# Altium schematic symbol library CondensadoresGenericos.SchLib: 18 symbols
Pins are listed as number, name and electrical type; pins without a type are passive.

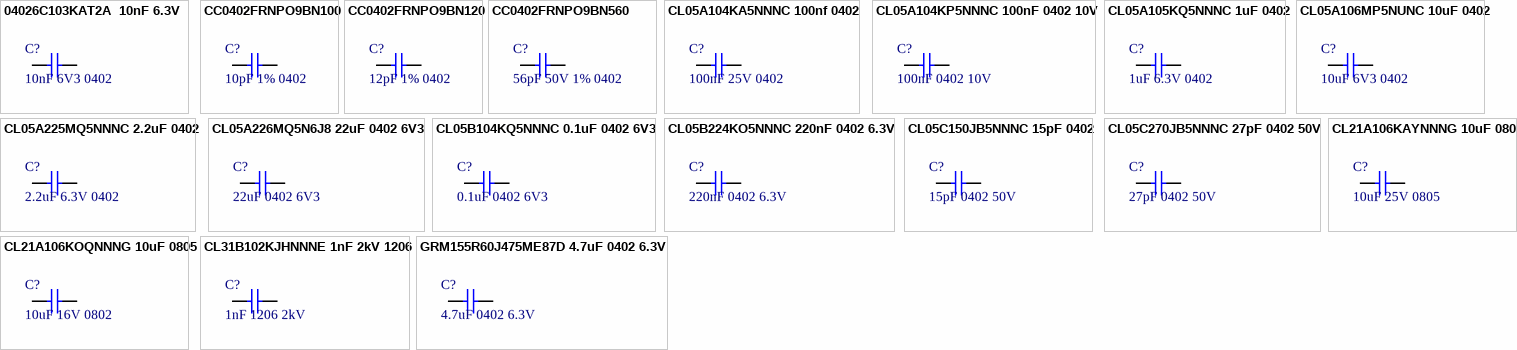
[diagram p0: symbols 04026C103KAT2A  10nF 6.3V to GRM155R60J475ME87D 4.7uF 0402 6.3V]

## 04026C103KAT2A  10nF 6.3V
designator C?, comment 10nF 6V3 0402
04026C103KAT2A  10nF 6.3V; Supplier 1: Digi-Key; Supplier Part Number 1: 478-04026C103KAT2ACT-ND; Value: 10nF 6V3 0402
pins: 1, 2

## CC0402FRNPO9BN100
designator C?, comment 10pF 1% 0402
10 pF ±1% 50V Ceramic Capacitor C0G, NP0 0402 (1005 Metric); Supplier 1: Digi-Key; Supplier Part Number 1: 311-1640-1-ND; Value: 10pF 1% 0402
pins: 1, 2

## CC0402FRNPO9BN120
designator C?, comment 12pF 1% 0402
12 pF ±1% 50V Ceramic Capacitor C0G, NP0 0402 (1005 Metric); Supplier 1: Digi-Key; Supplier Part Number 1: 311-1641-1-ND; Value: 12pF 1% 0402
pins: 1, 2

## CC0402FRNPO9BN560
designator C?, comment 56pF 50V 1% 0402
56 pF ±1% 50V Ceramic Capacitor C0G, NP0 0402 (1005 Metric); Supplier 1: Digi-Key; Supplier Part Number 1: 311-3734-1-ND; Value: 56pF 50V 1% 0402
pins: 1, 2

## CL05A104KA5NNNC 100nf 0402
designator C?, comment 100nF 25V 0402
100nF, 25V, MLCC, 0402; Manufacturer: Samsung; Manufacturer Part Number: CL05A104KA5NNNC; Capacitance: 0.1 µF; Dielectric: X5R; Tolerance (%): ±10 %; Supplier 1: Digi-Key; Stock 1: 8000233; Pricing 1: 1=0.1, 10=0.012, 50=0.0064, 100=0.0053, 500=0.0038, 1000=0.003, 2500=0.0027, 5000=0.0025 (USD); Case Size/Dimension: 0402; Rated Voltage: 25 V; ComponentLink1URL: http://www1.futureelectronics.com/doc/SAMSUNG/CL05A104KA5NNNC.pdf?src-supplier=Future+Electronics; ComponentLink1Description: http://www1.futureelectronics.com/doc/SAMSUNG/CL05A104KA5NNNC.pdf?src-supplier=Future+Electronics; ComponentLink2URL: http://www.samsungsem.com/kr/support/product-search/mlcc/CL05A104KA5NNNC.jsp?src-supplier=Digi-Key; ComponentLink2Description: http://www.samsungsem.com/kr/support/product-search/mlcc/CL05A104KA5NNNC.jsp?src-supplier=Digi-Key; ComponentLink3URL: https://www.distrelec.biz/Web/Downloads/_e/ng/MLCC_CatalogDownload2013_ENG.pdf?mime=application%2Fpdf&src-supplier=Distrelec; ComponentLink3Description: https://www.distrelec.biz/Web/Downloads/_e/ng/MLCC_CatalogDownload2013_ENG.pdf?mime=application%2Fpdf&src-supplier=Distrelec; ComponentLink4URL: https://www.verical.com/server-webapp/html/getDatasheet?partID=357412&src-supplier=Verical; ComponentLink4Description: https://www.verical.com/server-webapp/html/getDatasheet?partID=357412&src-supplier=Verical; Supplier Part Number 1: 1276-1043-1-ND; Value: 100nF 25V 0402
pins: 1, 2

## CL05A104KP5NNNC 100nF 0402 10V
designator C?, comment 100nF 0402 10V
Cap Ceramic 0.1uF 10V X5R 10% SMD 0402 85C Paper T/R; Manufacturer: Samsung; Manufacturer Part Number: CL05A104KP5NNNC; Capacitance: 100000 pF; Supplier 1: Digi-Key; Stock 1: 5595689; Pricing 1: 1=0.1, 10=0.021, 50=0.0116, 100=0.0094, 500=0.0067, 1000=0.0053, 2500=0.0048, 5000=0.0044 (USD); Case Size/Dimension: 0402; Dielectric: X5R; Tolerance (%): ±10 %; Rated Voltage: 10 V; ComponentLink1URL: https://www.distrelec.biz/Web/Downloads/_e/ng/MLCC_CatalogDownload2013_ENG.pdf?mime=application%2Fpdf&src-supplier=Distrelec; ComponentLink1Description: https://www.distrelec.biz/Web/Downloads/_e/ng/MLCC_CatalogDownload2013_ENG.pdf?mime=application%2Fpdf&src-supplier=Distrelec; ComponentLink2URL: https://media.digikey.com/pdf/Data%20Sheets/Samsung%20PDFs/CL_Series_MLCC_ds.pdf?src-supplier=Digi-Key; ComponentLink2Description: https://media.digikey.com/pdf/Data%20Sheets/Samsung%20PDFs/CL_Series_MLCC_ds.pdf?src-supplier=Digi-Key; ComponentLink3URL: http://www1.futureelectronics.com/doc/SAMSUNG%20PASSIVE/CL05B104KQ5NNNC.pdf?src-supplier=Future+Electronics; ComponentLink3Description: http://www1.futureelectronics.com/doc/SAMSUNG%20PASSIVE/CL05B104KQ5NNNC.pdf?src-supplier=Future+Electronics; ComponentLink4URL: https://www.verical.com/server-webapp/html/getDatasheet?partID=358611&src-supplier=Verical; ComponentLink4Description: https://www.verical.com/server-webapp/html/getDatasheet?partID=358611&src-supplier=Verical; Supplier Part Number 1: 1276-1022-1-ND; Value: 100nF 0402 10V
pins: 1, 2

## CL05A105KQ5NNNC 1uF 0402
designator C?, comment 1uF 6.3V 0402
SAMSUNG ELECTRO-MECHANICS - CL05A105KQ5NNNC - SMD Multilayer Ceramic Capacitor, 1 µF, 6.3 V, 0402 [1005 Metric], ± 10%, X5R, CL Series; Capacitance: 1000000 pF; Supplier 1: Digi-Key; Manufacturer: Samsung; Manufacturer Part Number: CL05A105KQ5NNNC; Stock 1: 2633061; Pricing 1: 1=0.1, 10=0.019, 50=0.0106, 100=0.0087, 500=0.0062, 1000=0.0049, 2500=0.0044, 5000=0.0041 (USD); Case Size/Dimension: 0402; Dielectric: X5R; Tolerance (%): ±10 %; Rated Voltage: 6.3 V; ComponentLink1URL: http://www.samsungsem.com/kr/support/product-search/mlcc/CL05A105KQ5NNNC.jsp?src-supplier=Digi-Key; ComponentLink1Description: http://www.samsungsem.com/kr/support/product-search/mlcc/CL05A105KQ5NNNC.jsp?src-supplier=Digi-Key; ComponentLink2URL: http://www1.futureelectronics.com/doc/SAMSUNG%20PASSIVE/CL05B104KQ5NNNC.pdf?src-supplier=Future+Electronics; ComponentLink2Description: http://www1.futureelectronics.com/doc/SAMSUNG%20PASSIVE/CL05B104KQ5NNNC.pdf?src-supplier=Future+Electronics; ComponentLink3URL: https://www.verical.com/server-webapp/html/getDatasheet?partID=358391&src-supplier=Verical; ComponentLink3Description: https://www.verical.com/server-webapp/html/getDatasheet?partID=358391&src-supplier=Verical; ComponentLink4URL: https://produktinfo.conrad.com/datenblaetter/450000-474999/459172-da-01-en-VS_KONDENSATOR_0402.pdf?src-supplier=Conrad; ComponentLink4Description: https://produktinfo.conrad.com/datenblaetter/450000-474999/459172-da-01-en-VS_KONDENSATOR_0402.pdf?src-supplier=Conrad; Supplier Part Number 1: 1276-1010-1-ND; Value: 1uF 6.3V 0402
pins: 1, 2

## CL05A106MP5NUNC 10uF 0402
designator C?, comment 10uF 6V3 0402
CL05A106MP5NUNC CAP CER 10UF 10V X5R 0402; Value: 10uF 6V3 0402; Supplier 1: Digi-Key; Supplier Part Number 1: 1276-1450-1-ND
pins: 1, 2

## CL05A225MQ5NNNC 2.2uF 0402
designator C?, comment 2.2uF 6.3V 0402
CAP CER 2.2UF 6.3V X5R 0402; Supplier 1: Digi-Key; Supplier Part Number 1: 1276-1469-1-ND; Value: 2.2uF 6.3V 0402
pins: 1, 2

## CL05A226MQ5N6J8 22uF 0402 6V3
designator C?, comment 22uF 0402 6V3
CL05 Series 22 uF 6.3 V ±20% Tolerance X5R SMT Multilayer Ceramic Capacitor; Manufacturer: Samsung; Manufacturer Part Number: CL05A226MQ5N6J8; Categories: Capacitors; Capacitance: 22µF; Voltage - Rated: 6.3V; Supplier 1: Digi-Key; Stock 1: 135434; Pricing 1: 1=0.53, 10=0.366, 50=0.2564, 100=0.2197, 500=0.1648, 1000=0.1392, 2500=0.1318 (USD); Series: CL; Packaging: Tape & Reel (TR); Part Status: Active; Tolerance: ±20%; Temperature Coefficient: X5R; Operating Temperature: -55°C ~ 85°C; Features: -; Ratings: -; Applications: General Purpose; Failure Rate: -; Mounting Type: Surface Mount, MLCC; Package / Case: 0402 (1005 Metric); Size / Dimension: 0.039 L x 0.020 W (1.00mm x 0.50mm); Height - Seated (Max): -; Thickness (Max): 0.030 (0.75mm); Lead Spacing: -; Lead Style: -; ComponentLink1URL: http://www.samsungsem.com/kr/support/library/product-catalog/mlcc.jsp?src-supplier=Digi-Key; ComponentLink1Description: http://www.samsungsem.com/kr/support/library/product-catalog/mlcc.jsp?src-supplier=Digi-Key; Supplier Part Number 1: 1276-7090-1-ND; Value: 22uF 0402 6V3
pins: 1, 2

## CL05B104KQ5NNNC 0.1uF 0402 6V3
designator C?, comment 0.1uF 0402 6V3
0.1 µF ±10% 6.3V Ceramic Capacitor X7R 0402 (1005 Metric); Supplier 1: Digi-Key; Supplier Part Number 1: 1276-1511-1-ND; Value: 0.1uF 0402 6V3
pins: 1, 2

## CL05B224KO5NNNC 220nF 0402 6.3V
designator C?, comment 220nF 0402 6.3V
SAMSUNG ELECTRO-MECHANICS - CL05B224KO5NNNC - SMD Multilayer Ceramic Capacitor, 0.22 µF, 16 V, 0402 [1005 Metric], ± 10%, X7R, CL Series; Rated Voltage: 16 V; Supplier 1: Digi-Key; Manufacturer: Samsung; Manufacturer Part Number: CL05B224KO5NNNC; Stock 1: 1886603; Pricing 1: 1=0.1, 10=0.033, 50=0.0182, 100=0.0149, 500=0.0106, 1000=0.0084, 2500=0.0076, 5000=0.007 (USD); Capacitance: 220 nF; Case Size/Dimension: 0402; Dielectric: X7R; Tolerance (%): ±10 %; ComponentLink1URL: http://www.samsungsem.com/kr/support/product-search/mlcc/CL05B224KO5NNNC.jsp?src-supplier=Digi-Key; ComponentLink1Description: http://www.samsungsem.com/kr/support/product-search/mlcc/CL05B224KO5NNNC.jsp?src-supplier=Digi-Key; ComponentLink2URL: http://www1.futureelectronics.com/doc/SAMSUNG/CL05B224KO5NNNC.pdf?src-supplier=Future+Electronics; ComponentLink2Description: http://www1.futureelectronics.com/doc/SAMSUNG/CL05B224KO5NNNC.pdf?src-supplier=Future+Electronics; ComponentLink3URL: https://www.verical.com/server-webapp/html/getDatasheet?partID=358459&src-supplier=Verical; ComponentLink3Description: https://www.verical.com/server-webapp/html/getDatasheet?partID=358459&src-supplier=Verical; Supplier Part Number 1: 1276-1176-1-ND; Value: 220nF 0402 6.3V
pins: 1, 2

## CL05C150JB5NNNC 15pF 0402
designator C?, comment 15pF 0402 50V
CAP CER 15PF 50V C0G/NP0 0402; Manufacturer: Samsung; Manufacturer Part Number: CL05C150JB5NNNC; Dielectric: C0G; Tolerance (%): ±5 %; Supplier 1: Digi-Key; Stock 1: 1262754; Pricing 1: 1=0.1, 10=0.025, 50=0.0138, 100=0.0113, 500=0.008, 1000=0.0063, 2500=0.0058, 5000=0.0053 (USD); Capacitance: 15 pF; Case Size/Dimension: 0402; Rated Voltage: 50 V; ComponentLink1URL: https://www.distrelec.biz/Web/Downloads/_e/ng/MLCC_CatalogDownload2013_ENG.pdf?mime=application%2Fpdf&src-supplier=Distrelec; ComponentLink1Description: https://www.distrelec.biz/Web/Downloads/_e/ng/MLCC_CatalogDownload2013_ENG.pdf?mime=application%2Fpdf&src-supplier=Distrelec; ComponentLink2URL: http://www1.futureelectronics.com/doc/SAMSUNG/CL05C150JB5NNNC.pdf?src-supplier=Future+Electronics; ComponentLink2Description: http://www1.futureelectronics.com/doc/SAMSUNG/CL05C150JB5NNNC.pdf?src-supplier=Future+Electronics; ComponentLink3URL: https://www.verical.com/server-webapp/html/getDatasheet?partID=497170&src-supplier=Verical; ComponentLink3Description: https://www.verical.com/server-webapp/html/getDatasheet?partID=497170&src-supplier=Verical; ComponentLink4URL: https://produktinfo.conrad.com/datenblaetter/450000-474999/458690-da-01-en-VS_KONDENSATOR_0402.pdf?src-supplier=Conrad; ComponentLink4Description: https://produktinfo.conrad.com/datenblaetter/450000-474999/458690-da-01-en-VS_KONDENSATOR_0402.pdf?src-supplier=Conrad; Supplier Part Number 1: 1276-1179-1-ND; Value: 15pF 0402 50V
pins: 1, 2

## CL05C270JB5NNNC 27pF 0402 50V
designator C?, comment 27pF 0402 50V
SAMSUNG ELECTRO-MECHANICS - CL05C270JB5NNNC - SMD Multilayer Ceramic Capacitor, 27 pF, 50 V, 0402 [1005 Metric], ± 5%, C0G / NP0, CL Series; Supplier 1: Digi-Key; Manufacturer: Samsung; Manufacturer Part Number: CL05C270JB5NNNC; Stock 1: 137388; Pricing 1: 1=0.1, 10=0.032, 50=0.0174, 100=0.0142, 500=0.0101, 1000=0.008, 2500=0.0072, 5000=0.0067 (USD); Capacitance: 27 pF; Case Size/Dimension: 0402; Dielectric: C0G; Tolerance (%): ±5 %; Rated Voltage: 50 V; ComponentLink1URL: https://media.digikey.com/pdf/Data%20Sheets/Samsung%20PDFs/CL_Series_MLCC_ds.pdf?src-supplier=Digi-Key; ComponentLink1Description: https://media.digikey.com/pdf/Data%20Sheets/Samsung%20PDFs/CL_Series_MLCC_ds.pdf?src-supplier=Digi-Key; ComponentLink2URL: http://www1.futureelectronics.com/doc/SAMSUNG%20PASSIVE/CL05B104KQ5NNNC.pdf?src-supplier=Future+Electronics; ComponentLink2Description: http://www1.futureelectronics.com/doc/SAMSUNG%20PASSIVE/CL05B104KQ5NNNC.pdf?src-supplier=Future+Electronics; ComponentLink3URL: https://www.verical.com/server-webapp/html/getDatasheet?partID=359687&src-supplier=Verical; ComponentLink3Description: https://www.verical.com/server-webapp/html/getDatasheet?partID=359687&src-supplier=Verical; ComponentLink4URL: https://produktinfo.conrad.com/datenblaetter/450000-474999/458634-da-01-en-VS_KONDENSATOR_0402.pdf?src-supplier=Conrad; ComponentLink4Description: https://produktinfo.conrad.com/datenblaetter/450000-474999/458634-da-01-en-VS_KONDENSATOR_0402.pdf?src-supplier=Conrad; Supplier Part Number 1: 1276-1153-1-ND; Value: 27pF 0402 50V
pins: 1, 2

## CL21A106KAYNNNG 10uF 0805
designator C?, comment 10uF 25V 0805
10 µF ±10% 25V Ceramic Capacitor X5R 0805 (2012 Metric); Supplier 1: Digi-Key; Supplier Part Number 1: 1276-6454-1-ND; Value: 10uF 25V 0805
pins: 1, 2

## CL21A106KOQNNNG 10uF 0805
designator C?, comment 10uF 16V 0802
10 µF ±10% 16V Ceramic Capacitor X5R 0805 (2012 Metric); Supplier 1: Digi-Key; Supplier Part Number 1: 1276-6455-1-ND; Value: 10uF 16V 0802
pins: 1, 2

## CL31B102KJHNNNE 1nF 2kV 1206
designator C?, comment 1nF 1206 2kV
Supplier 1: Digi-Key; Supplier Part Number 1: 1276-3073-1-ND; Value: 1nF 1206 2kV
pins: 1, 2

## GRM155R60J475ME87D 4.7uF 0402 6.3V
designator C?, comment 4.7uF 0402 6.3V
MURATA - GRM155R60J475ME87D - SMD Multilayer Ceramic Capacitor, 4.7 µF, 6.3 V, 0402 [1005 Metric], ± 20%, X5R, GRM Series; Rad Hard: No; Product Depth: 0.5 mm; Voltage: 6.3 Vdc; Product Length: 1 mm; Supplier 1: Digi-Key; Manufacturer: Murata; Manufacturer Part Number: GRM155R60J475ME87D; Stock 1: 78795; Pricing 1: 1=0.14, 10=0.101, 50=0.0572, 100=0.0474, 500=0.0332, 1000=0.0275, 2500=0.0256, 5000=0.0234 (USD); Packaging: Tape & Reel; Package/Case: 0402; Mounting: Surface Mount; Capacitance Value: 4.7 uF; Tolerance: 20 %; Dielectric: X5R; Operating Temperature: -55 to 85 °C; Construction: Flat; Product Height: 0.5 mm; Category: Capacitor Ceramic Multilayer; ComponentLink1URL: https://www.murata.com/~/media/webrenewal/support/library/catalog/products/capacitor/mlcc/c02e.ashx?la=en-us&src-supplier=Digi-Key; ComponentLink1Description: https://www.murata.com/~/media/webrenewal/support/library/catalog/products/capacitor/mlcc/c02e.ashx?la=en-us&src-supplier=Digi-Key; ComponentLink2URL: http://components.arrow.com/part/dataview/47740841S8828489N2606?src-supplier=Arrow+Electronics; ComponentLink2Description: http://components.arrow.com/part/dataview/47740841S8828489N2606?src-supplier=Arrow+Electronics; Supplier Part Number 1: 490-5408-1-ND; Value: 4.7uF 0402 6.3V
pins: 1, 2